# Altium footprint library STM32.PcbLib: 3 footprints
Each footprint in its own frame and in the unit in brackets; x right, y up, seen from the top. Pads: shape width x height; smd on the part's side, far side on the other; paste and mask are expansions set on the pad; w line width, h text height; cw(c..) or ccw(c..) is an arc to the next point about the centre after c.
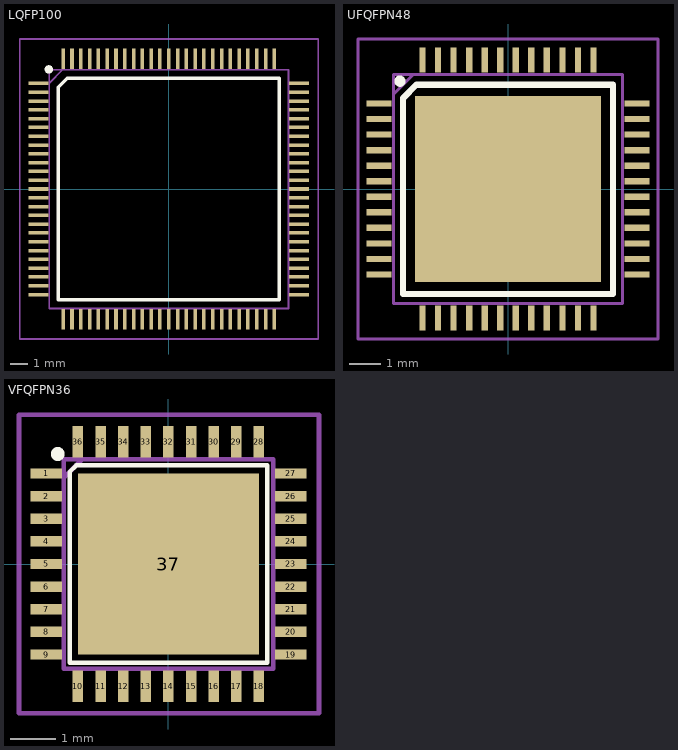
[diagram p0: the footprints below, top view; thin cyan lines are the x and y axes]

## LQFP100 [mm]
pads (100):
  rect 1.15x0.2 smd: 1(-7.4,6) 2(-7.4,5.5) 3(-7.4,5) 4(-7.4,4.5) 5(-7.4,4) 6(-7.4,3.5) 7(-7.4,3) 8(-7.4,2.5) 9(-7.4,2) 10(-7.4,1.5) 11(-7.4,1) 12(-7.4,0.5) 13(-7.4,0) 14(-7.4,-0.5) 15(-7.4,-1) 16(-7.4,-1.5) 17(-7.4,-2) 18(-7.4,-2.5) 19(-7.4,-3) 20(-7.4,-3.5) 21(-7.4,-4) 22(-7.4,-4.5) 23(-7.4,-5) 24(-7.4,-5.5) 25(-7.4,-6) 51(7.4,-6) 52(7.4,-5.5) 53(7.4,-5) 54(7.4,-4.5) 55(7.4,-4) 56(7.4,-3.5) 57(7.4,-3) 58(7.4,-2.5) 59(7.4,-2) 60(7.4,-1.5) 61(7.4,-1) 62(7.4,-0.5) 63(7.4,0) 64(7.4,0.5) 65(7.4,1) 66(7.4,1.5) 67(7.4,2) 68(7.4,2.5) 69(7.4,3) 70(7.4,3.5) 71(7.4,4) 72(7.4,4.5) 73(7.4,5) 74(7.4,5.5) 75(7.4,6)
  rect 0.2x1.15 smd: 26(-6,-7.4) 27(-5.5,-7.4) 28(-5,-7.4) 29(-4.5,-7.4) 30(-4,-7.4) 31(-3.5,-7.4) 32(-3,-7.4) 33(-2.5,-7.4) 34(-2,-7.4) 35(-1.5,-7.4) 36(-1,-7.4) 37(-0.5,-7.4) 38(0,-7.4) 39(0.5,-7.4) 40(1,-7.4) 41(1.5,-7.4) 42(2,-7.4) 43(2.5,-7.4) 44(3,-7.4) 45(3.5,-7.4) 46(4,-7.4) 47(4.5,-7.4) 48(5,-7.4) 49(5.5,-7.4) 50(6,-7.4) 76(6,7.4) 77(5.5,7.4) 78(5,7.4) 79(4.5,7.4) 80(4,7.4) 81(3.5,7.4) 82(3,7.4) 83(2.5,7.4) 84(2,7.4) 85(1.5,7.4) 86(1,7.4) 87(0.5,7.4) 88(0,7.4) 89(-0.5,7.4) 90(-1,7.4) 91(-1.5,7.4) 92(-2,7.4) 93(-2.5,7.4) 94(-3,7.4) 95(-3.5,7.4) 96(-4,7.4) 97(-4.5,7.4) 98(-5,7.4) 99(-5.5,7.4) 100(-6,7.4)
Top Overlay:
  circle w0.254: c-6.818,6.796 r0.111
  lines w0.2: -6.29,-6.29 6.29,-6.29 6.29,6.29 -5.775,6.29 -6.29,5.775 -6.29,-6.29
Mechanical 13:
  lines w0.1: -6.789,6.02 -6.018,6.792 ; -6.789,-6.785 -6.783,-6.791 6.791,-6.791 6.797,-6.785 6.797,6.782 6.796,6.783 -6.789,6.783 -6.789,-6.785
Mechanical 15:
  lines w0.1: -8.475,-8.525 8.5,-8.525 8.5,8.525 -8.475,8.525 -8.475,-8.525
3D body "STM32G474VET6.step": height 1.6, standoff 0, extent -7.983,-7.994 8.017,8.006

## UFQFPN48 [mm]
pads (49):
  rect 0.8x0.2 smd: 1(-4.15,2.75) 2(-4.15,2.25) 3(-4.15,1.75) 4(-4.15,1.25) 5(-4.15,0.75) 6(-4.15,0.25) 7(-4.15,-0.25) 8(-4.15,-0.75) 9(-4.15,-1.25) 10(-4.15,-1.75) 11(-4.15,-2.25) 12(-4.15,-2.75) 25(4.15,-2.75) 26(4.15,-2.25) 27(4.15,-1.75) 28(4.15,-1.25) 29(4.15,-0.75) 30(4.15,-0.25) 31(4.15,0.25) 32(4.15,0.75) 33(4.15,1.25) 34(4.15,1.75) 35(4.15,2.25) 36(4.15,2.75)
  rect 0.2x0.8 smd: 13(-2.75,-4.15) 14(-2.25,-4.15) 15(-1.75,-4.15) 16(-1.25,-4.15) 17(-0.75,-4.15) 18(-0.25,-4.15) 19(0.25,-4.15) 20(0.75,-4.15) 21(1.25,-4.15) 22(1.75,-4.15) 23(2.25,-4.15) 24(2.75,-4.15) 37(2.75,4.15) 38(2.25,4.15) 39(1.75,4.15) 40(1.25,4.15) 41(0.75,4.15) 42(0.25,4.15) 43(-0.25,4.15) 44(-0.75,4.15) 45(-1.25,4.15) 46(-1.75,4.15) 47(-2.25,4.15) 48(-2.75,4.15)
  rect 6x6 smd: ""(0,0)
Top Overlay:
  lines w0.2: -3.378,-3.378 3.378,-3.378 3.378,3.353 -2.946,3.353 -3.378,2.921 -3.378,-3.378
  lines w0.254: -3.445,3.425 cw(c-3.475,3.47) -3.434,3.435
Mechanical 13:
  lines w0.1: -3.683,3.048 -3.048,3.683 ; -3.683,-3.683 3.683,-3.683 3.683,3.683 -3.683,3.683 -3.683,-3.683
Mechanical 15:
  lines w0.1: -4.826,-4.826 -4.826,4.826 4.826,4.826 4.826,-4.826 -4.826,-4.826
3D body "STM32F103C8T6.STEP": height 1.6, standoff 0, extent -4.5,-4.5 4.5,4.5

## VFQFPN36 [mm]
pads (37):
  rect 0.7x0.23 smd: 1(-2.7,2) 2(-2.7,1.5) 3(-2.7,1) 4(-2.7,0.5) 5(-2.7,0) 6(-2.7,-0.5) 7(-2.7,-1) 8(-2.7,-1.5) 9(-2.7,-2) 19(2.7,-2) 20(2.7,-1.5) 21(2.7,-1) 22(2.7,-0.5) 23(2.7,0) 24(2.7,0.5) 25(2.7,1) 26(2.7,1.5) 27(2.7,2)
  rect 0.23x0.7 smd: 10(-2,-2.7) 11(-1.5,-2.7) 12(-1,-2.7) 13(-0.5,-2.7) 14(0,-2.7) 15(0.5,-2.7) 16(1,-2.7) 17(1.5,-2.7) 18(2,-2.7) 28(2,2.7) 29(1.5,2.7) 30(1,2.7) 31(0.5,2.7) 32(0,2.7) 33(-0.5,2.7) 34(-1,2.7) 35(-1.5,2.7) 36(-2,2.7)
  rect 4x4 smd: 37(0,0)
Top Overlay:
  circle w0.254: c-2.446,2.432 r0.025
  lines w0.1: -2.184,-2.184 -2.184,2.032 -2.032,2.184 2.184,2.184 2.184,-2.184 -2.184,-2.184
Mechanical 13:
  lines w0.1: -2.311,1.905 -1.905,2.311 ; -2.311,-2.311 -2.311,2.311 2.311,2.311 2.311,-2.311 -2.311,-2.311
Mechanical 15:
  lines w0.1: -3.302,-3.302 -3.302,3.302 3.327,3.302 3.327,-3.302 -3.302,-3.302
3D body "VFQFPN-36.step": height 0.94, standoff 0, extent -3.069,-3.068 3.053,3.054